# Altium schematic symbol library Connector_REVD.SchLib: 2 symbols
Pins are listed as number, name and electrical type; pins without a type are passive.

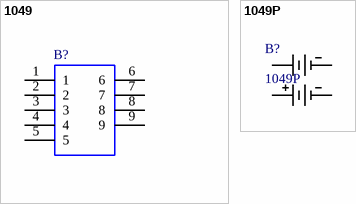
[diagram p0: symbols 1049 to 1049P]

## 1049
designator B?
KEYSTONE - 1049 - BATTERY HOLDER, 18650, THROUGH HOLE; Manufacturer_Name: Keystone Electronics; Geometry.Height: 14mm; Manufacturer_Part_Number: 1049; Mouser Part Number: 534-1049; Mouser Price/Stock: https://www.mouser.co.uk/ProductDetail/Keystone-Electronics/1049?qs=%2F7TOpeL5Mz78b0pqEFIl5w%3D%3D; Arrow Part Number: *; Arrow Price/Stock: *; Mouser Testing Part Number: *; Mouser Testing Price/Stock: *; Datasheet Link: http://www.keyelco.com/product.cfm/product_id/921
footprint 1049
pins: 1, 2, 3, 4, 5, 6, 7, 8, 9

## 1049P
designator B?
No Description Available; Mfr_Name: Keystone Electronics; Copyright: Copyright (C) 2022 Ultra Librarian. All rights reserved.; Manufacturer_Part_Number: 1049P; Digi-Key_Part_Number_1: 36-1049P-ND; RefDes: RefDes; Type: DEV
footprint 1049P_KEY
pins: 1, 2, 3, 4